# EAGLE library part RFM69HCW (library RFM RADIOS)
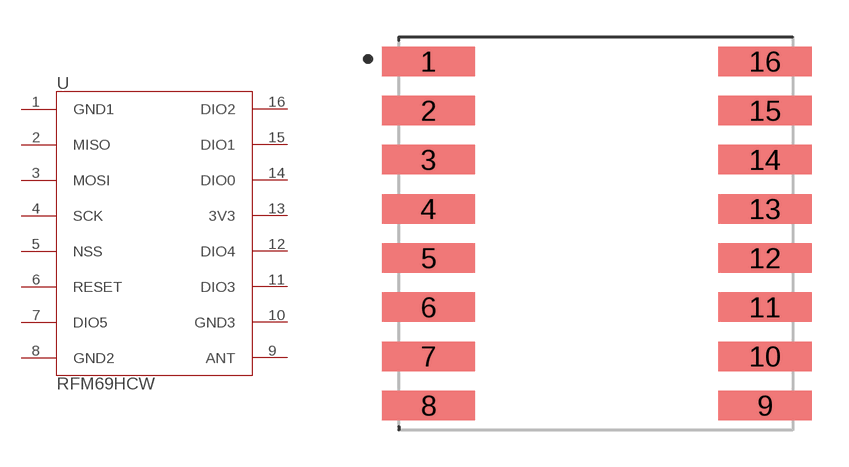
[diagram p2: symbol with the pads of RFM69HCW; footprint RFM69HCW]

Designator prefix -

## RFM69HCW  [RFM69HCW]
1  GND1
2  MISO
3  MOSI
4  SCK
5  NSS
6  RESET
7  DIO5
8  GND2
9  ANT
10  GND3
11  DIO3
12  DIO4
13  3V3
14  DIO0
15  DIO1
16  DIO2

## Footprint RFM69HCW (pad centres in mm)
smd 3.8 x 1.2: 1 1.8,15.55; 2 1.8,13.55; 3 1.8,11.55; 4 1.8,9.55; 5 1.8,7.55; 6 1.8,5.55; 7 1.8,3.55; 8 1.8,1.55; 9 15.5,1.55; 10 15.5,3.55; 11 15.5,5.55; 12 15.5,7.55; 13 15.5,9.55; 14 15.5,11.55; 15 15.5,13.55; 16 15.5,15.55